# Altium integrated library mod_duo_dwarf.IntLib: 29 symbols
Pins are listed as number, name and electrical type; pins without a type are passive.

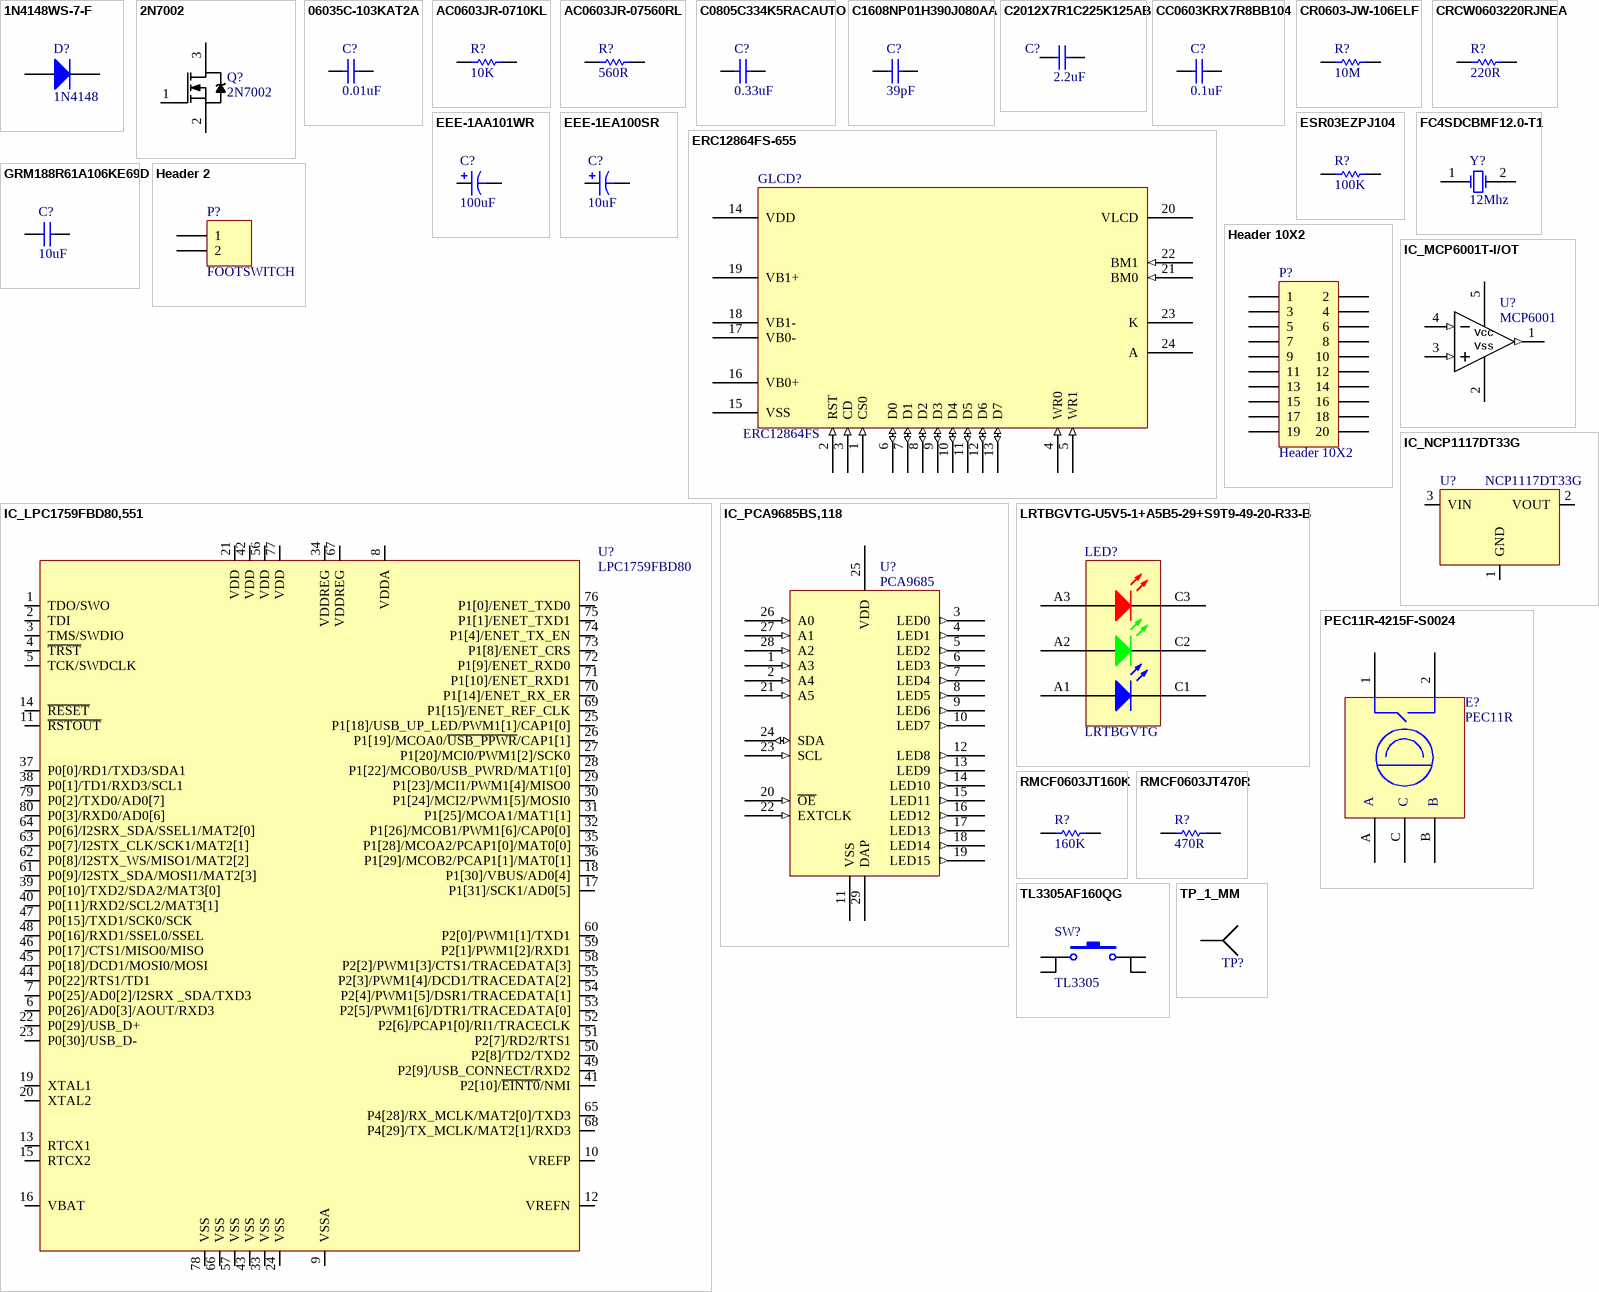
[diagram p0: symbols 1N4148WS-7-F to TP_1_MM]

## 1N4148WS-7-F
designator D?, comment 1N4148
DIODE SWITCHING 75V 0.15A SOD323; Manufacturer 1: Diodes; Manufacturer Part Number 1: 1N4148WS-7-F; Forward Current: 300mA; Reverse Recovery Time: 4ns; Element Configuration: Single; Forward Voltage: 1.25V; Peak Reverse Current: 1uA; Peak Non-Repetitive Surge Current: 2A; Average Rectified Current: 150mA; Power Dissipation: 200mW; Polarity: Standard; Capacitance: 2pF; Supplier 1: Digi-Key; Stock 1: 557451; Pricing 1: 1=0.19, 10=0.171, 100=0.0932, 500=0.05736, 1000=0.03911 (USD); Mount: Surface Mount; Number of Pins: 2; Weight: 0.000173oz; Contact Plating: Tin,Matte; Min Operating Temperature: -65°C; Max Operating Temperature: 150°C; Max Repetitive Reverse Voltage (Vrrm): 75V; Max Forward Surge Current (Ifsm): 2A; Max Surge Current: 2A; Packaging: Tape and Reel; Recovery Time: 4ns; Package Quantity: 3000; Voltage Rating (DC): 75V; Power Rating: 200mW; Current Rating: 150mA; Output Current: 150mA; Voltage: 75V; Max Reverse Voltage (DC): 75V; Current: 2A; Length: 1.8mm; Height: 1mm; Width: 1.4mm; Radiation Hardening: No; REACH SVHC: No SVHC; Lead Free: Lead Free; ComponentLink1URL: https://datasheet.ciiva.com/16199/ds30097-16199061.pdf; ComponentLink1Description: https://datasheet.ciiva.com/16199/ds30097-16199061.pdf; ComponentLink2URL: https://datasheet.ciiva.com/16472/ds30097-16472599.pdf; ComponentLink2Description: https://datasheet.ciiva.com/16472/ds30097-16472599.pdf; ComponentLink3URL: https://datasheet.ciiva.com/1179/ds30097-1179355.pdf; ComponentLink3Description: https://datasheet.ciiva.com/1179/ds30097-1179355.pdf; ComponentLink4URL: https://datasheet.ciiva.com/8300/ds30097-8300396.pdf; ComponentLink4Description: https://datasheet.ciiva.com/8300/ds30097-8300396.pdf; ComponentLink5URL: https://datasheet.ciiva.com/911/ds30097-911741.pdf; ComponentLink5Description: https://datasheet.ciiva.com/911/ds30097-911741.pdf; ComponentLink6URL: https://datasheet.ciiva.com/911/ds30097-911742.pdf; ComponentLink6Description: https://datasheet.ciiva.com/911/ds30097-911742.pdf; ComponentLink7URL: https://datasheet.ciiva.com/25946/ds30097-25946926.pdf; ComponentLink7Description: https://datasheet.ciiva.com/25946/ds30097-25946926.pdf; ComponentLink8URL: https://datasheet.ciiva.com/911/ds30097-911743.pdf; ComponentLink8Description: https://datasheet.ciiva.com/911/ds30097-911743.pdf; Supplier Part Number 1: 1N4148WS-FDICT-ND
footprint SOD-323
pins: 1 K, 2 A

## 2N7002
designator Q?
MOSFET N-CH 60V 115MA SOT-23; Manufacturer 1: ON Semiconductor / Fairchild; Max Power Dissipation: 200mW; Drain to Source Resistance: 1.2R; Gate to Source Voltage (Vgs): 20V; Nominal Vgs: 2.1V; Number of Elements: 1; Element Configuration: Single; Input Capacitance: 50pF; Rds On Max: 7.5R; On-State Resistance: 5.3R; Supplier 1: Digi-Key; Manufacturer Part Number 1: 2N7002; Stock 1: 111118; Pricing 1: 1=0.33, 10=0.304, 100=0.17, 500=0.09108, 1000=0.06193 (USD); Mount: Surface Mount; Case/Package: SOT-23; Number of Pins: 3; Contact Plating: Tin,Matte; Min Operating Temperature: -55°C; Max Operating Temperature: 150°C; Continuous Drain Current (ID): 115mA; Packaging: Tape and Reel; Package Quantity: 1; Drain to Source Voltage (Vdss): 60V; Drain to Source Breakdown Voltage: 60V; Power Dissipation: 200mW; Threshold Voltage: 2.1V; Voltage Rating (DC): 60V; Current Rating: 115mA; Dual Supply Voltage: 60V; Current: 115mA; Voltage: 60V; Length: 2.92mm; Height: 0.93mm; Width: 3.05mm; Radiation Hardening: No; REACH SVHC: No SVHC; Lead Free: Lead Free; ComponentLink1URL: https://datasheet.ciiva.com/931/2n7000-931777.pdf; ComponentLink1Description: https://datasheet.ciiva.com/931/2n7000-931777.pdf; ComponentLink2URL: https://datasheet.ciiva.com/27746/47-0120-27746881.pdf; ComponentLink2Description: https://datasheet.ciiva.com/27746/47-0120-27746881.pdf; ComponentLink3URL: https://datasheet.ciiva.com/1254/2n7002-1254451.pdf; ComponentLink3Description: https://datasheet.ciiva.com/1254/2n7002-1254451.pdf; ComponentLink4URL: https://datasheet.ciiva.com/15137/getdatasheetpartid-93547-15137771.pdf; ComponentLink4Description: https://datasheet.ciiva.com/15137/getdatasheetpartid-93547-15137771.pdf; ComponentLink5URL: https://datasheet.ciiva.com/931/2n7000-931762.pdf; ComponentLink5Description: https://datasheet.ciiva.com/931/2n7000-931762.pdf; ComponentLink6URL: https://datasheet.ciiva.com/931/2n7000-931763.pdf; ComponentLink6Description: https://datasheet.ciiva.com/931/2n7000-931763.pdf; ComponentLink7URL: https://datasheet.ciiva.com/931/2n7000-931764.pdf; ComponentLink7Description: https://datasheet.ciiva.com/931/2n7000-931764.pdf; ComponentLink8URL: https://datasheet.ciiva.com/1254/660093-1254452.pdf; ComponentLink8Description: https://datasheet.ciiva.com/1254/660093-1254452.pdf; ComponentLink9URL: https://datasheet.ciiva.com/1188/660093-1188359.pdf; ComponentLink9Description: https://datasheet.ciiva.com/1188/660093-1188359.pdf; ComponentLink10URL: https://datasheet.ciiva.com/1188/660093-1188361.pdf; ComponentLink10Description: https://datasheet.ciiva.com/1188/660093-1188361.pdf; ComponentLink11URL: https://datasheet.ciiva.com/17007/2n7002-17007243.pdf; ComponentLink11Description: https://datasheet.ciiva.com/17007/2n7002-17007243.pdf; ComponentLink12URL: https://datasheet.ciiva.com/3304/nds7002a-3304380.pdf; ComponentLink12Description: https://datasheet.ciiva.com/3304/nds7002a-3304380.pdf; ComponentLink13URL: https://datasheet.ciiva.com/3304/nds7002a-3304381.pdf; ComponentLink13Description: https://datasheet.ciiva.com/3304/nds7002a-3304381.pdf; ComponentLink14URL: https://datasheet.ciiva.com/22655/660093-22655230.pdf; ComponentLink14Description: https://datasheet.ciiva.com/22655/660093-22655230.pdf; Supplier Part Number 1: 2N7002NCT-ND
footprint SOT23-3N (SOT23, 3-Leads, Body 2.9x1.3mm, Pitch 0.95mm, Lead Span 2.5mm, IPC Medium Density)
pins: 1 G, 2 S, 3 D

## 06035C-103KAT2A
designator C?, comment 0.01uF
CAP CER 10000PF 50V X7R 0603; Manufacturer 1: Kyocera AVX; Manufacturer Part Number 1: 06035C-103KAT2A; Dielectric Material: Ceramic; Tolerance: 10%; Capacitance: 10nF; Dissipation Factor: 2.5%; Insulation Resistance: 100GR; Supplier 1: Digi-Key; Stock 1: 40000; Pricing 1: 1=0.1, 10=0.075, 100=0.0334, 500=0.02388, 1000=0.01877 (USD); Mount: Surface Mount,PCB; Case/Package: 0603; Number of Pins: 2; Case Code (Metric): 1608; Case Code (Imperial): 0603; Contact Plating: Tin,Matte; Min Operating Temperature: -55°C; Max Operating Temperature: 125°C; Dielectric: X7R; Voltage Rating (DC): 50V; Packaging: Tape and Reel; Voltage: 50V; Voltage Rating: 50V; Package Quantity: 1; Termination: SMD/SMT; Length: 1.6mm; Height: 0.9mm; Width: 0.032inch; Depth: 0.81mm; Thickness: 0.035inch; Radiation Hardening: No; REACH SVHC: No SVHC; Lead Free: Lead Free; ComponentLink1URL: https://datasheet.ciiva.com/1124/1679506-1124848.pdf; ComponentLink1Description: https://datasheet.ciiva.com/1124/1679506-1124848.pdf; ComponentLink2URL: https://datasheet.ciiva.com/2987/cx7r-2987824.pdf; ComponentLink2Description: https://datasheet.ciiva.com/2987/cx7r-2987824.pdf; ComponentLink3URL: https://datasheet.ciiva.com/150/cx7r-150227.pdf; ComponentLink3Description: https://datasheet.ciiva.com/150/cx7r-150227.pdf; ComponentLink4URL: https://datasheet.ciiva.com/150/cx7r-150228.pdf; ComponentLink4Description: https://datasheet.ciiva.com/150/cx7r-150228.pdf; ComponentLink5URL: https://datasheet.ciiva.com/150/cx7r-150229.pdf; ComponentLink5Description: https://datasheet.ciiva.com/150/cx7r-150229.pdf; ComponentLink6URL: https://datasheet.ciiva.com/16209/cx7r-16209238.pdf; ComponentLink6Description: https://datasheet.ciiva.com/16209/cx7r-16209238.pdf; ComponentLink7URL: https://datasheet.ciiva.com/15212/getdatasheetpartid-87506-15212295.pdf; ComponentLink7Description: https://datasheet.ciiva.com/15212/getdatasheetpartid-87506-15212295.pdf; ComponentLink8URL: https://datasheet.ciiva.com/5423/cx7r-218113-5423178.pdf; ComponentLink8Description: https://datasheet.ciiva.com/5423/cx7r-218113-5423178.pdf; ComponentLink9URL: https://datasheet.ciiva.com/7855/1679506-7855082.pdf; ComponentLink9Description: https://datasheet.ciiva.com/7855/1679506-7855082.pdf; ComponentLink10URL: https://datasheet.ciiva.com/14585/70001075-14585146.pdf; ComponentLink10Description: https://datasheet.ciiva.com/14585/70001075-14585146.pdf; ComponentLink11URL: https://datasheet.ciiva.com/25901/cx7r-25901100.pdf; ComponentLink11Description: https://datasheet.ciiva.com/25901/cx7r-25901100.pdf; ComponentLink12URL: https://datasheet.ciiva.com/1124/1679506-1124847.pdf; ComponentLink12Description: https://datasheet.ciiva.com/1124/1679506-1124847.pdf; ComponentLink13URL: https://datasheet.ciiva.com/2987/cx7r-2987823.pdf; ComponentLink13Description: https://datasheet.ciiva.com/2987/cx7r-2987823.pdf; Supplier Part Number 1: 478-1227-1-ND
footprint CAPC1608N (Chip Capacitor, Body 1.6x0.8mm, IPC Medium Density)
pins: 1, 2

## AC0603JR-0710KL
designator R?, comment 10K
RES SMD 10K OHM 5% 1/10W 0603; Manufacturer 1: Yageo; Manufacturer Part Number 1: AC0603JR-0710KL; Voltage Rating: 50V; Resistance: 10kR; Power Rating: 100mW; Temperature Coefficient: 100ppm/°C; Supplier 1: Digi-Key; Stock 1: 60451; Pricing 1: 1=0.1, 10=0.032, 100=0.0131, 1000=0.00588, 2500=0.0051 (USD); Case/Package: 0603; Case Code (Imperial): 0603; Case Code (Metric): 1608; Min Operating Temperature: -55°C; Max Operating Temperature: 155°C; Packaging: Tape and Reel; Tolerance: 5%; Package Quantity: 1; Composition: Thick Film; Termination: SMD/SMT; Number of Terminations: 2; Military Standard: Not; Max Power Dissipation: 100mW; Features: Moisture Resistant,Automotive AEC-Q200,Anti-Sulfur; Length: 0.063inch; Height: 0.022inch; Width: 0.031inch; Depth: 0.8mm; Lead Free: Lead Free; ComponentLink1URL: https://datasheet.ciiva.com/5562/pyu-ac-51-rohs-l-2-5562553.pdf; ComponentLink1Description: https://datasheet.ciiva.com/5562/pyu-ac-51-rohs-l-2-5562553.pdf; Supplier Part Number 1: 311-10KLECT-ND
footprint RESC1608N (Chip Resistor, Body 1.6x0.8mm, IPC Medium Density)
pins: 1, 2

## AC0603JR-07560RL
designator R?, comment 560R
RES SMD 560 OHM 5% 1/10W 0603; Manufacturer 1: Yageo; Manufacturer Part Number 1: AC0603JR-07560RL; Power Rating: 100mW; Voltage Rating: 50V; Temperature Coefficient: 100ppm/°C; Supplier 1: Digi-Key; Stock 1: 24630; Pricing 1: 1=0.1, 10=0.026, 100=0.0107, 1000=0.00478, 2500=0.00415 (USD); Case/Package: 0603; Case Code (Imperial): 0603; Case Code (Metric): 1608; Min Operating Temperature: -55°C; Max Operating Temperature: 155°C; Packaging: Tape and Reel; Resistance: 560R; Tolerance: 5%; Composition: Thick Film; Number of Terminations: 2; Termination: SMD/SMT; Max Power Dissipation: 100mW; Length: 0.063inch; Height: 0.022inch; Width: 0.031inch; ComponentLink1URL: http://www.yageo.com/NewPortal/yageodocoutput?fileName=/pdf/R-Chip/PYu-AC_51_RoHS_L_6.pdf; ComponentLink1Description: http://www.yageo.com/NewPortal/yageodocoutput?fileName=/pdf/R-Chip/PYu-AC_51_RoHS_L_6.pdf; ComponentLink2URL: http://www.mouser.com/ds/2/447/yageodocoutput-1111992.pdf; ComponentLink2Description: http://www.mouser.com/ds/2/447/yageodocoutput-1111992.pdf; Supplier Part Number 1: YAG3681CT-ND
footprint RESC1608N (Chip Resistor, Body 1.6x0.8mm, IPC Medium Density)
pins: 1, 2

## C0805C334K5RACAUTO
designator C?, comment 0.33uF
CAP CER 0.33UF 50V X7R 0805; Manufacturer 1: Kemet; Manufacturer Part Number 1: C0805C334K5RACAUTO; Description 1: Multilayer Ceramic Capacitors MLCC - SMD/SMT 0.33uF 50volts 10% X7R; Capacitance - nF: 330 nF; Capacitance - pF: 330000 pF; Case Height: 0.9 mm; Case Length: 2 mm; Case Width: 1.2 mm; Class: Class 1; Tolerance: 10 %; Temperature Coefficient / Code: +/- 15 %; Type: SMD MLCC X7R 6.3 - 250 VDC Commerical Grade; Supplier 1: Digi-Key; Stock 1: 76; Pricing 1: 1=0.21, 10=0.142, 100=0.0721, 500=0.0493, 1000=0.0436 (USD); Brand: Kemet; Capacitance: 0.33 uF; Case Code - in: 0805; Case Code - mm: 2012; Dimensions: 1.2 mm W x 2 mm L x 0.9 mm H; Dielectric: X7R; Factory Pack Quantity: 4000; Voltage Rating: 50 V; Product Category: Multilayer Ceramic Capacitors MLCC - SMD/SMT; RoHS: Details; Voltage Rating DC: 50 V; Minimum Operating Temperature: - 55 C; Maximum Operating Temperature: + 125 C; Product: Automotive MLCCs; Operating Temperature Range: - 55 C to + 125 C; Package / Case: 0805 (2012 metric); Packaging: Reel; Series: C0805C; Termination Style: SMD/SMT; ComponentLink1URL: https://datasheet.ciiva.com/7842/1776105-7842326.pdf; ComponentLink1Description: https://datasheet.ciiva.com/7842/1776105-7842326.pdf; ComponentLink2URL: https://datasheet.ciiva.com/22705/1776105-22705463.pdf; ComponentLink2Description: https://datasheet.ciiva.com/22705/1776105-22705463.pdf; Supplier Part Number 1: 399-6959-1-ND; Supplier 2: Digi-Key; Supplier Part Number 2: 1276-1808-1-ND; Manufacturer 2: Samsung; Manufacturer Part Number 2: CL21B334KAFNNNE
footprint CAPC2012N (Chip Capacitor, Body 2.0x1.3mm, IPC Medium Density)
pins: 1, 2

## C1608NP01H390J080AA
designator C?, comment 39pF
CAP CER 39PF 50V NP0 0603; Manufacturer 1: TDK; Manufacturer Part Number 1: C1608NP01H390J080AA; Tolerance: 5%; Dielectric: C0G; Supplier 1: Digi-Key; Stock 1: 1503; Pricing 1: 1=0.15, 10=0.106, 100=0.05, 500=0.03508, 1000=0.02904 (USD); Mount: Surface Mount; Case/Package: 0603; Weight: 7.1E-05oz; Case Code (Metric): 1608; Case Code (Imperial): 0603; Min Operating Temperature: -55°C; Max Operating Temperature: 150°C; Package Quantity: 4000; Packaging: Tape and Reel; Capacitance: 39pF; Voltage Rating: 50V; Termination: SMD/SMT; Voltage Rating (DC): 50V; Length: 0.063inch; Height: 0.8mm; Width: 0.031inch; Thickness: 0.035inch; Supplier Part Number 1: 445-14077-1-ND
footprint CAPC1608N (Chip Capacitor, Body 1.6x0.8mm, IPC Medium Density)
pins: 1, 2

## C2012X7R1C225K125AB
designator C?, comment 2.2uF
CAP CER 2.2UF 16V X7R 0805; Manufacturer 1: TDK; Manufacturer Part Number 1: C2012X7R1C225K125AB; Dielectric Material: Ceramic; Tolerance: 10%; Supplier 1: Digi-Key; Stock 1: 20000; Pricing 1: 1=0.28, 10=0.194, 100=0.0983, 500=0.06728, 1000=0.05951 (USD); Mount: Surface Mount; Case/Package: 0805; Number of Pins: 2; Weight: 0.000194oz; Case Code (Imperial): 0805; Case Code (Metric): 2012; Min Operating Temperature: -55°C; Max Operating Temperature: 125°C; Capacitance: 2.2uF; Dielectric: X7R; Packaging: Tape and Reel; Package Quantity: 2000; Voltage Rating: 16V; Voltage Rating (DC): 16V; Termination: SMD/SMT; Voltage: 16V; Composition: Ceramic; Length: 2mm; Height: 1.25mm; Width: 1.25mm; Depth: 1.25mm; Thickness: 0.057inch; Radiation Hardening: No; REACH SVHC: No SVHC; Lead Free: Lead Free; ComponentLink1URL: https://datasheet.ciiva.com/24219/c2012x7r1c225k125ab-265065-24219730.pdf; ComponentLink1Description: https://datasheet.ciiva.com/24219/c2012x7r1c225k125ab-265065-24219730.pdf; ComponentLink2URL: https://datasheet.ciiva.com/11788/0900766b80c1bb00-11788135.pdf; ComponentLink2Description: https://datasheet.ciiva.com/11788/0900766b80c1bb00-11788135.pdf; ComponentLink3URL: https://datasheet.ciiva.com/26834/getdatasheetpartid-736487-26834421.pdf; ComponentLink3Description: https://datasheet.ciiva.com/26834/getdatasheetpartid-736487-26834421.pdf; ComponentLink4URL: https://datasheet.ciiva.com/16482/e412-c-16482422.pdf; ComponentLink4Description: https://datasheet.ciiva.com/16482/e412-c-16482422.pdf; ComponentLink5URL: https://datasheet.ciiva.com/6291/tdkmlcccaprange-6291383.pdf; ComponentLink5Description: https://datasheet.ciiva.com/6291/tdkmlcccaprange-6291383.pdf; ComponentLink6URL: https://datasheet.ciiva.com/6291/tdkmlcccaprange-6291384.pdf; ComponentLink6Description: https://datasheet.ciiva.com/6291/tdkmlcccaprange-6291384.pdf; ComponentLink7URL: https://datasheet.ciiva.com/22648/1796654-22648712.pdf; ComponentLink7Description: https://datasheet.ciiva.com/22648/1796654-22648712.pdf; ComponentLink8URL: https://datasheet.ciiva.com/6291/tdkmlcccaprange-6291450.pdf; ComponentLink8Description: https://datasheet.ciiva.com/6291/tdkmlcccaprange-6291450.pdf; ComponentLink9URL: https://datasheet.ciiva.com/22694/1796654-22694143.pdf; ComponentLink9Description: https://datasheet.ciiva.com/22694/1796654-22694143.pdf; Supplier Part Number 1: 445-1420-1-ND
footprint CAPC2012N (Chip Capacitor, Body 2.0x1.3mm, IPC Medium Density)
pins: 1, 2

## CC0603KRX7R8BB104
designator C?, comment 0.1uF
CAP CER 0.1UF 25V X7R 0603; Manufacturer 1: Yageo; Manufacturer Part Number 1: CC0603KRX7R8BB104; Capacitance: 100nF; Tolerance: 10%; Supplier 1: Digi-Key; Stock 1: 40000; Pricing 1: 1=0.1, 10=0.074, 100=0.0329, 500=0.02352, 1000=0.01848 (USD); Mount: Surface Mount; Case/Package: 0603; Number of Pins: 2; Case Code (Imperial): 0603; Case Code (Metric): 1608; Min Operating Temperature: -55°C; Max Operating Temperature: 125°C; Dielectric: X7R; Voltage Rating: 25V; Packaging: Tape and Reel; Package Quantity: 1; Voltage Rating (DC): 25V; Termination: SMD/SMT; Composition: Ceramic; Voltage: 25V; Length: 1.6mm; Height: 0.8mm; Width: 0.8mm; Thickness: 0.035inch; Depth: 0.8mm; Radiation Hardening: No; REACH SVHC: Unknown; Lead Free: Lead Free; Halogen Free: Halogen Free; ComponentLink1URL: https://datasheet.ciiva.com/11786/0900766b80c10176-11786120.pdf; ComponentLink1Description: https://datasheet.ciiva.com/11786/0900766b80c10176-11786120.pdf; ComponentLink2URL: https://datasheet.ciiva.com/144/mlccorderingcode-144075.pdf; ComponentLink2Description: https://datasheet.ciiva.com/144/mlccorderingcode-144075.pdf; ComponentLink3URL: https://datasheet.ciiva.com/17434/upy-gphc-x7r-6-3v-to-50v-8-17434263.pdf; ComponentLink3Description: https://datasheet.ciiva.com/17434/upy-gphc-x7r-6-3v-to-50v-8-17434263.pdf; ComponentLink4URL: https://datasheet.ciiva.com/26829/getdatasheetpartid-403577-26829431.pdf; ComponentLink4Description: https://datasheet.ciiva.com/26829/getdatasheetpartid-403577-26829431.pdf; ComponentLink5URL: https://datasheet.ciiva.com/11587/upy-gphc-x7r-6-3v-to-50v-8-11587208.pdf; ComponentLink5Description: https://datasheet.ciiva.com/11587/upy-gphc-x7r-6-3v-to-50v-8-11587208.pdf; ComponentLink6URL: https://datasheet.ciiva.com/13389/upy-gphc-x7r-6-3v-to-50v-8-13389352.pdf; ComponentLink6Description: https://datasheet.ciiva.com/13389/upy-gphc-x7r-6-3v-to-50v-8-13389352.pdf; ComponentLink7URL: https://datasheet.ciiva.com/28450/1489800-28450584.pdf; ComponentLink7Description: https://datasheet.ciiva.com/28450/1489800-28450584.pdf; ComponentLink8URL: https://datasheet.ciiva.com/144/mlccorderingcode-144073.pdf; ComponentLink8Description: https://datasheet.ciiva.com/144/mlccorderingcode-144073.pdf; ComponentLink9URL: https://datasheet.ciiva.com/144/mlccorderingcode-144074.pdf; ComponentLink9Description: https://datasheet.ciiva.com/144/mlccorderingcode-144074.pdf; ComponentLink10URL: https://datasheet.ciiva.com/7978/1489800-7978155.pdf; ComponentLink10Description: https://datasheet.ciiva.com/7978/1489800-7978155.pdf; Supplier Part Number 1: 311-1341-1-ND
footprint CAPC1608N (Chip Capacitor, Body 1.6x0.8mm, IPC Medium Density)
pins: 1, 2

## CR0603-JW-106ELF
designator R?, comment 10M
RES SMD 10M OHM 5% 1/10W 0603; Manufacturer 1: Bourns; Resistance: 10MR; Temperature Coefficient: 200ppm/°C; Power Rating: 100mW; Voltage Rating: 50V; Supplier 1: Digi-Key; Manufacturer Part Number 2: CR0603-JW-106ELF; Stock 1: 29967; Pricing 1: 1=0.1, 10=0.016, 100=0.0064, 1000=0.00289, 2500=0.0025 (USD); Mount: Surface Mount; Case/Package: 0603; Contact Plating: Tin; Case Code (Imperial): 0603; Case Code (Metric): 1608; Min Operating Temperature: -55°C; Max Operating Temperature: 155°C; Tolerance: 5%; Composition: Thick Film; Packaging: Tape and Reel; Package Quantity: 5000; Termination: SMD/SMT; Number of Terminations: 2; Max Power Dissipation: 100mW; Military Standard: Not; Length: 1.6mm; Height: 0.022inch; Width: 0.8mm; Thickness: 457um; Depth: 0.8mm; Radiation Hardening: No; ComponentLink1URL: https://datasheet.ciiva.com/9122/chpreztr-9122300.pdf; ComponentLink1Description: https://datasheet.ciiva.com/9122/chpreztr-9122300.pdf; ComponentLink2URL: https://datasheet.ciiva.com/18605/chpreztr-18605117.pdf; ComponentLink2Description: https://datasheet.ciiva.com/18605/chpreztr-18605117.pdf; ComponentLink3URL: https://datasheet.ciiva.com/18605/chpreztr-18605118.pdf; ComponentLink3Description: https://datasheet.ciiva.com/18605/chpreztr-18605118.pdf; ComponentLink4URL: https://datasheet.ciiva.com/18605/chpreztr-18605119.pdf; ComponentLink4Description: https://datasheet.ciiva.com/18605/chpreztr-18605119.pdf; Supplier Part Number 1: CR0603-JW-106ELFCT-ND
footprint RESC1608N (Chip Resistor, Body 1.6x0.8mm, IPC Medium Density)
pins: 1, 2

## CRCW0603220RJNEA
designator R?, comment 220R
RES SMD 220 OHM 5% 1/10W 0603; Manufacturer 1: Vishay; Manufacturer Part Number 1: CRCW0603220RJNEA; Power Rating: 100mW; Temperature Coefficient: 200ppm/°C; Voltage Rating: 75V; Supplier 1: Digi-Key; Stock 1: 284000; Pricing 1: 1=0.1, 10=0.031, 100=0.0125, 1000=0.00563, 2500=0.00488 (USD); Mount: Surface Mount; Case/Package: 0603; Weight: 7.1E-05oz; Case Code (Metric): 1608; Case Code (Imperial): 0603; Contact Plating: Tin; Min Operating Temperature: -55°C; Max Operating Temperature: 155°C; Resistance: 220R; Tolerance: 5%; Packaging: Tape and Reel; Composition: Thick Film; Package Quantity: 1; Number of Terminations: 2; Max Power Dissipation: 100mW; Military Standard: Not; Termination: SMD/SMT; Features: Automotive AEC-Q200; Working Voltage: 75V; Length: 1.55mm; Height: 0.45mm; Width: 0.033inch; Depth: 0.85mm; Radiation Hardening: No; REACH SVHC: Unknown; ComponentLink1URL: https://datasheet.ciiva.com/2524/dcrcwe3-2524384.pdf; ComponentLink1Description: https://datasheet.ciiva.com/2524/dcrcwe3-2524384.pdf; ComponentLink2URL: https://datasheet.ciiva.com/2524/dcrcwe3-2524385.pdf; ComponentLink2Description: https://datasheet.ciiva.com/2524/dcrcwe3-2524385.pdf; ComponentLink3URL: https://datasheet.ciiva.com/2524/dcrcwe3-2524386.pdf; ComponentLink3Description: https://datasheet.ciiva.com/2524/dcrcwe3-2524386.pdf; ComponentLink4URL: https://datasheet.ciiva.com/8339/dcrcwe3-8339958.pdf; ComponentLink4Description: https://datasheet.ciiva.com/8339/dcrcwe3-8339958.pdf; ComponentLink5URL: https://datasheet.ciiva.com/22869/70201119-22869142.pdf; ComponentLink5Description: https://datasheet.ciiva.com/22869/70201119-22869142.pdf; ComponentLink6URL: https://datasheet.ciiva.com/46448/1807946-46448601.pdf; ComponentLink6Description: https://datasheet.ciiva.com/46448/1807946-46448601.pdf; ComponentLink7URL: https://datasheet.ciiva.com/5550/dcrcwe3-109170-5550730.pdf; ComponentLink7Description: https://datasheet.ciiva.com/5550/dcrcwe3-109170-5550730.pdf; Supplier Part Number 1: 541-220GCT-ND
footprint RESC1608N (Chip Resistor, Body 1.6x0.8mm, IPC Medium Density)
pins: 1, 2

## EEE-1AA101WR
designator C?, comment 100uF
CAP ALUM 100UF 20% 10V SMD; Manufacturer 1: Panasonic ECG; Manufacturer Part Number 1: EEE-1AA101WR; Description 1: Cap Aluminum Lytic 100uF 10V 20% (5 X 5.4mm) SMD 50mA 1000h 85C Automotive T/R; Ripple Current: 50mA; Life (Hours): 1000Hour; Supplier 1: Digi-Key; Stock 1: 122621; Pricing 1: 1=0.31, 10=0.212, 100=0.1272, 500=0.0954 (USD); Mount: Surface Mount,PCB; Case/Package: Radial; Contact Plating: Tin; Min Operating Temperature: -40°C; Max Operating Temperature: 85°C; Capacitance: 100uF; Tolerance: 20%; Voltage Rating: 10V; Packaging: Tape and Reel; Package Quantity: 1; Voltage Rating (DC): 10V; Termination: SMD/SMT; Ripple Current (AC): 50mA; Diameter: 5mm; Length: 5.5mm; Height: 5.4mm; Height - Seated (Max): 0.213inch; Radiation Hardening: No; Lead Free: Lead Free; REACH SVHC: Unknown; ComponentLink1URL: https://datasheet.ciiva.com/26945/getdatasheetpartid-169213-26945071.pdf; ComponentLink1Description: https://datasheet.ciiva.com/26945/getdatasheetpartid-169213-26945071.pdf; ComponentLink2URL: https://datasheet.ciiva.com/2983/aba0000ce2-2983906.pdf; ComponentLink2Description: https://datasheet.ciiva.com/2983/aba0000ce2-2983906.pdf; ComponentLink3URL: https://datasheet.ciiva.com/24027/aba0000ce2-40801-24027541.pdf; ComponentLink3Description: https://datasheet.ciiva.com/24027/aba0000ce2-40801-24027541.pdf; ComponentLink4URL: https://datasheet.ciiva.com/30075/11aba0000ce2-30075303.pdf; ComponentLink4Description: https://datasheet.ciiva.com/30075/11aba0000ce2-30075303.pdf; ComponentLink5URL: https://datasheet.ciiva.com/16427/aba0000ce2-16427544.pdf; ComponentLink5Description: https://datasheet.ciiva.com/16427/aba0000ce2-16427544.pdf; ComponentLink6URL: https://datasheet.ciiva.com/14598/70255710-14598233.pdf; ComponentLink6Description: https://datasheet.ciiva.com/14598/70255710-14598233.pdf; ComponentLink7URL: https://datasheet.ciiva.com/14605/70255710-14605689.pdf; ComponentLink7Description: https://datasheet.ciiva.com/14605/70255710-14605689.pdf; ComponentLink8URL: https://datasheet.ciiva.com/11673/aba0000ce2-11673882.pdf; ComponentLink8Description: https://datasheet.ciiva.com/11673/aba0000ce2-11673882.pdf; Supplier Part Number 1: PCE3867CT-ND
footprint CAPAE6553X55M (Aluminum Electrolytic Capacitor, Body 5.30x5.30x5.50mm, IPC Low Density)
pins: 1, 2

## EEE-1EA100SR
designator C?, comment 10uF
CAP ALUM 10UF 20% 25V SMD; Manufacturer 1: Panasonic; Manufacturer Part Number 1: EEE-1EA100SR; Ripple Current: 28mA; Life (Hours): 2000Hour; Leakage Current: 3uA; Lead Length: 2.2mm; Supplier 1: Digi-Key; Stock 1: 6724; Pricing 1: 1=0.31, 10=0.214, 100=0.1286, 500=0.09646 (USD); Mount: PCB,Surface Mount; Case/Package: Radial; Number of Pins: 2; Contact Plating: Tin; Min Operating Temperature: -40°C; Max Operating Temperature: 85°C; Capacitance: 10uF; Tolerance: 20%; Packaging: Tape and Reel; Voltage Rating: 25V; Ripple Current (AC): 28mA; Voltage Rating (DC): 25V; Package Quantity: 1; Termination: SMD/SMT; Voltage: 25V; Diameter: 5mm; Length: 5.5mm; Height: 5.4mm; Height - Seated (Max): 0.213inch; Width: 5.3mm; Lead Pitch: 1.5mm; Radiation Hardening: No; REACH SVHC: No SVHC; Supplier Part Number 1: PCE3894CT-ND
footprint CAP_EEE_C-L
pins: 1, 2

## ERC12864FS-655
designator GLCD?, comment ERC12864FS
SERIAL SPI 2.8"GLCD 128x64 UC1701 CONTROLLER; Manufacturer 1: EastRising; Manufacturer Part Number 1: ERC12864FS-655; Supplier 1: EastRising; Supplier Part Number 1: ERC12864FS-655
footprint ERC12864FS
pins: 1 CS0 (in), 2 RST (in), 3 CD (in), 4 WR0 (in), 5 WR1 (in), 6 D0 (io), 7 D1 (io), 8 D2 (io), 9 D3 (io), 10 D4 (io), 11 D5 (io), 12 D6 (io), 13 D7 (io), 14 VDD (power), 15 VSS (power), 16 VB0+, 17 VB0-, 18 VB1-, 19 VB1+, 20 VLCD (power), 21 BM0 (in), 22 BM1 (in), 23 K, 24 A

## ESR03EZPJ104
designator R?, comment 100K
RES SMD 100K OHM 5% 1/4W 0603; Manufacturer 1: Rohm; Manufacturer Part Number 1: ESR03EZPJ104; Resistance: 100kR; Power Rating: 200mW; Max Power Dissipation: 250mW; Temperature Coefficient: 200ppm/°C; Supplier 1: Digi-Key; Stock 1: 17901; Pricing 1: 1=0.1, 10=0.087, 100=0.0333, 1000=0.01464, 2500=0.01264 (USD); Case/Package: 0603; Case Code (Metric): 1608; Case Code (Imperial): 0603; Min Operating Temperature: -55°C; Max Operating Temperature: 155°C; Tolerance: 5%; Package Quantity: 1; Packaging: Cut Tape; Composition: Thick Film; Number of Terminations: 2; Length: 0.063inch; Height: 0.022inch; Width: 0.031inch; Lead Free: Lead Free; ComponentLink1URL: https://datasheet.ciiva.com/14930/esr-14930633.pdf; ComponentLink1Description: https://datasheet.ciiva.com/14930/esr-14930633.pdf; ComponentLink2URL: https://datasheet.ciiva.com/14924/esr-14924811.pdf; ComponentLink2Description: https://datasheet.ciiva.com/14924/esr-14924811.pdf; ComponentLink3URL: https://datasheet.ciiva.com/14928/esr-14928813.pdf; ComponentLink3Description: https://datasheet.ciiva.com/14928/esr-14928813.pdf; Supplier Part Number 1: RHM100KDCT-ND
footprint RESC1608N (Chip Resistor, Body 1.6x0.8mm, IPC Medium Density)
pins: 1, 2

## FC4SDCBMF12.0-T1
designator Y?, comment 12Mhz
CRYSTAL 12.0000MHZ 20PF SMD; Manufacturer 1: Fox Electronics; Manufacturer Part Number 1: FC4SDCBMF12.0-T1; Supplier 1: Digi-Key; Stock 1: 37233; Pricing 1: 1=0.32, 10=0.263, 50=0.2364, 100=0.2102, 500=0.1997 (USD); Supplier Part Number 1: 631-1013-1-ND
footprint CRYSTAL_HC49SDLF
pins: 1 OSC1, 2 OSC2

## GRM188R61A106KE69D
designator C?, comment 10uF
CAP CER 10UF 10V X5R 0603; Manufacturer 1: Murata; Manufacturer Part Number 1: GRM188R61A106KE69D; Tolerance: 10%; Supplier 1: Digi-Key; Stock 1: 40000; Pricing 1: 1=0.22, 10=0.149, 100=0.0754, 500=0.05158, 1000=0.04563 (USD); Mount: Surface Mount; Case/Package: 0603; Case Code (Metric): 1608; Case Code (Imperial): 0603; Min Operating Temperature: -55°C; Max Operating Temperature: 85°C; Capacitance: 10uF; Packaging: Tape and Reel; Dielectric: X5R; Voltage Rating: 10V; Voltage: 10V; Voltage Rating (DC): 10V; Length: 1.6mm; Height: 0.8mm; Width: 0.031inch; Thickness: 0.037inch; Depth: 0.8mm; REACH SVHC: No SVHC; Lead Free: Lead Free; Supplier Part Number 1: 490-10474-1-ND
footprint CAPC1608N (Chip Capacitor, Body 1.6x0.8mm, IPC Medium Density)
pins: 1, 2

## Header 2
designator P?, comment FOOTSWITCH
Header, 2-Pin; LatestRevisionDate: 17-Jul-2002; LatestRevisionNote: Re-released for DXP Platform.; Publisher: Altium Limited
footprint HDR1X2 (Connector; Header; 2 Position)
signal-integrity model Connector
pins: 1, 2

## Header 10X2
designator P?
Header, 10-Pin, Dual row; LatestRevisionDate: 17-Jul-2002; LatestRevisionNote: Re-released for DXP Platform.; Publisher: Altium Limited
footprint HDR2X10 (Connector; Header; 10x2 Position)
signal-integrity model Connector
pins: 1, 2, 3, 4, 5, 6, 7, 8, 9, 10, 11, 12, 13, 14, 15, 16, 17, 18, 19, 20

## IC_LPC1759FBD80,551
designator U?, comment LPC1759FBD80
IC MCU 32BIT 512KB FLASH 80LQFP; Manufacturer 1: NXP Semiconductors; Manufacturer Part Number 1: LPC1759FBD80,551; Min Supply Voltage: 2.4V; Max Supply Voltage: 3.6V; Number of PWM Channels: 7; RAM Size: 64KB; Operating Supply Voltage: 3.3V; Number of ADC Channels: 6; Number of Timers/Counters: 4; Max Power Dissipation: 1.5W; Interface: I2C,SPI,USB,CAN,IrDA,SSP,UART,USART,Ethernet,I2S; Number of I/Os: 52; Frequency: 120MHz; Oscillator Type: Internal; Data Bus Width: 32b; Number of SPI Channels: 3; Number of I2C Channels: 2; Watchdog Timer: Yes; Peripherals: Brown-out Detect/Reset,POR,PWM,WDT,DMA,I2C; Core Architecture: ARM; Supplier 1: Digi-Key; Stock 1: 820; Pricing 1: 1=10.62000, 10=9.59500, 25=9.14920, 100=7.94410, 250=7.58712, 500=6.91766, 1000=6.02505 (USD); RoHS: Yes; Mount: Surface Mount; Case/Package: LQFP; Number of Pins: 80; Min Operating Temperature: -40°C; Max Operating Temperature: 85°C; Package Quantity: 119; Packaging: Tray; Number of UART Channels: 4; Number of Programmable I/O: 52; Max Frequency: 120MHz; Memory Type: FLASH; Memory Size: 512KB; Length: 12.1mm; Height: 1.5mm; Width: 12.1mm; Radiation Hardening: No; REACH SVHC: No SVHC; Lead Free: Lead Free; ComponentLink1URL: https://datasheet.ciiva.com/8010/1760709-8010161.pdf?src-supplier=Element14; ComponentLink1Description: https://datasheet.ciiva.com/8010/1760709-8010161.pdf?src-supplier=Element14; ComponentLink2URL: https://datasheet.ciiva.com/26818/lpc1759fbd80-551-26818650.pdf?src-supplier=IIIC; ComponentLink2Description: https://datasheet.ciiva.com/26818/lpc1759fbd80-551-26818650.pdf?src-supplier=IIIC; ComponentLink3URL: https://datasheet.ciiva.com/5700/1760709-5700186.pdf?src-supplier=Farnell; ComponentLink3Description: https://datasheet.ciiva.com/5700/1760709-5700186.pdf?src-supplier=Farnell; ComponentLink4URL: https://datasheet.ciiva.com/16378/lpc1759-58-56-54-52-51-16378523.pdf?src-supplier=Future+Electronics; ComponentLink4Description: https://datasheet.ciiva.com/16378/lpc1759-58-56-54-52-51-16378523.pdf?src-supplier=Future+Electronics; Supplier Part Number 1: 568-4968-ND
footprint LQFP80 (TSQFP, 80-Leads, Body 12.00x12.00mm, Pitch 0.50mm, Thermal Pad 0.00x0.00mm, IPC Medium Density)
pins: 1 TDO/SWO, 2 TDI, 3 TMS/SWDIO, 4 ~{TRST}, 5 TCK/SWDCLK, 6 P0[26]/AD0[3]/AOUT/RXD3, 7 P0[25]/AD0[2]/I2SRX _SDA/TXD3, 8 VDDA, 9 VSSA, 10 VREFP, 11 ~{RSTOUT}, 12 VREFN, 13 RTCX1, 14 ~{RESET}, 15 RTCX2, 16 VBAT, 17 P1[31]/SCK1/AD0[5], 18 P1[30]/VBUS/AD0[4], 19 XTAL1, 20 XTAL2, 21 VDD, 22 P0[29]/USB_D+, 23 P0[30]/USB_D-, 24 VSS, 25 P1[18]/USB_UP_LED/PWM1[1]/CAP1[0], 26 P1[19]/MCOA0/~{USB_PPWR}/CAP1[1], 27 P1[20]/MCI0/PWM1[2]/SCK0, 28 P1[22]/MCOB0/USB_PWRD/MAT1[0], 29 P1[23]/MCI1/PWM1[4]/MISO0, 30 P1[24]/MCI2/PWM1[5]/MOSI0, 31 P1[25]/MCOA1/MAT1[1], 32 P1[26]/MCOB1/PWM1[6]/CAP0[0], 33 VSS, 34 VDDREG, 35 P1[28]/MCOA2/PCAP1[0]/MAT0[0], 36 P1[29]/MCOB2/PCAP1[1]/MAT0[1], 37 P0[0]/RD1/TXD3/SDA1, 38 P0[1]/TD1/RXD3/SCL1, 39 P0[10]/TXD2/SDA2/MAT3[0], 40 P0[11]/RXD2/SCL2/MAT3[1], 41 P2[10]/~{EINT0}/NMI, 42 VDD, 43 VSS, 44 P0[22]/RTS1/TD1, 45 P0[18]/DCD1/MOSI0/MOSI, 46 P0[17]/CTS1/MISO0/MISO, 47 P0[15]/TXD1/SCK0/SCK, 48 P0[16]/RXD1/SSEL0/SSEL, 49 P2[9]/USB_CONNECT/RXD2, 50 P2[8]/TD2/TXD2, 51 P2[7]/RD2/RTS1, 52 P2[6]/PCAP1[0]/RI1/TRACECLK, 53 P2[5]/PWM1[6]/DTR1/TRACEDATA[0], 54 P2[4]/PWM1[5]/DSR1/TRACEDATA[1], 55 P2[3]/PWM1[4]/DCD1/TRACEDATA[2], 56 VDD, 57 VSS, 58 P2[2]/PWM1[3]/CTS1/TRACEDATA[3], 59 P2[1]/PWM1[2]/RXD1, 60 P2[0]/PWM1[1]/TXD1, 61 P0[9]/I2STX_SDA/MOSI1/MAT2[3], 62 P0[8]/I2STX_WS/MISO1/MAT2[2], 63 P0[7]/I2STX_CLK/SCK1/MAT2[1], 64 P0[6]/I2SRX_SDA/SSEL1/MAT2[0], 65 P4[28]/RX_MCLK/MAT2[0]/TXD3, 66 VSS, 67 VDDREG, 68 P4[29]/TX_MCLK/MAT2[1]/RXD3, 69 P1[15]/ENET_REF_CLK, 70 P1[14]/ENET_RX_ER, 71 P1[10]/ENET_RXD1, 72 P1[9]/ENET_RXD0, 73 P1[8]/ENET_CRS, 74 P1[4]/ENET_TX_EN, 75 P1[1]/ENET_TXD1, 76 P1[0]/ENET_TXD0, 77 VDD, 78 VSS, 79 P0[2]/TXD0/AD0[7], 80 P0[3]/RXD0/AD0[6]

## IC_MCP6001T-I/OT
designator U?, comment MCP6001
IC OPAMP GP 1MHZ RRO SOT23-5; Manufacturer 1: Microchip; Manufacturer Part Number 1: MCP6001T-I/OT; Voltage Gain: 112dB; Min Supply Voltage: 1.8V; Max Supply Voltage: 6V; Common Mode Rejection Ratio: 60dB; Operating Supply Voltage: 5.5V; Slew Rate: 0.6V/µs; Nominal Supply Current: 100uA; Number of Channels: 1; Output Current: 23mA; Input Bias Current: 1pA; Input Offset Voltage (Vos): 4.5mV; Power Supply Rejection Ratio (PSRR): 86dB; Supplier 1: Digi-Key; Stock 1: 3412; Pricing 1: 1=0.25, 25=0.206 (USD); Mount: Surface Mount; Case/Package: SOT-23; Number of Pins: 5; Contact Plating: Tin,Matte; Min Operating Temperature: -40°C; Max Operating Temperature: 85°C; Gain Bandwidth Product: 1MHz; Packaging: Tape and Reel; Bandwidth: 1MHz; Unity Gain Bandwidth Product: 1MHz; Package Quantity: 1; Number of Circuits: 1; Operating Supply Current: 100uA; Output Current per Channel: 23mA; Number of Elements: 1; Number of Amplifiers: 1; Voltage: 6V; Length: 3.1mm; Height: 1.3mm; Width: 1.8mm; Radiation Hardening: No; REACH SVHC: No SVHC; Lead Free: Lead Free; ComponentLink1URL: https://datasheet.ciiva.com/1793/21733j-1793040.pdf; ComponentLink1Description: https://datasheet.ciiva.com/1793/21733j-1793040.pdf; ComponentLink2URL: https://datasheet.ciiva.com/16199/filehandler-aspxddocname-en011705-16199408.pdf; ComponentLink2Description: https://datasheet.ciiva.com/16199/filehandler-aspxddocname-en011705-16199408.pdf; ComponentLink3URL: https://datasheet.ciiva.com/26344/651487-da-01-en-ic-opamp-mcp6001t-i-ot-sot-23-5-mcp-26344500.pdf; ComponentLink3Description: https://datasheet.ciiva.com/26344/651487-da-01-en-ic-opamp-mcp6001t-i-ot-sot-23-5-mcp-26344500.pdf; ComponentLink4URL: https://datasheet.ciiva.com/1793/21733j-1793041.pdf; ComponentLink4Description: https://datasheet.ciiva.com/1793/21733j-1793041.pdf; ComponentLink5URL: https://datasheet.ciiva.com/1793/21733j-1793042.pdf; ComponentLink5Description: https://datasheet.ciiva.com/1793/21733j-1793042.pdf; ComponentLink6URL: https://datasheet.ciiva.com/16796/jp011705-16796421.pdf; ComponentLink6Description: https://datasheet.ciiva.com/16796/jp011705-16796421.pdf; ComponentLink7URL: https://datasheet.ciiva.com/8078/524878-8078826.pdf; ComponentLink7Description: https://datasheet.ciiva.com/8078/524878-8078826.pdf; ComponentLink8URL: https://datasheet.ciiva.com/14544/70045422-14544795.pdf; ComponentLink8Description: https://datasheet.ciiva.com/14544/70045422-14544795.pdf; ComponentLink9URL: https://datasheet.ciiva.com/8078/524878-8078829.pdf; ComponentLink9Description: https://datasheet.ciiva.com/8078/524878-8078829.pdf; ComponentLink10URL: https://datasheet.ciiva.com/14151/mcp6001-2-4-eng-tds-14151487.pdf; ComponentLink10Description: https://datasheet.ciiva.com/14151/mcp6001-2-4-eng-tds-14151487.pdf; Supplier Part Number 1: MCP6001T-I/OTCT-ND
footprint SOT23-5N
pins: 1 OUT (out), 2 VSS (power), 3 IN+ (in), 4 IN- (in), 5 VCC (power)
text: Vcc; Vss

## IC_NCP1117DT33G
designator U?, comment NCP1117DT33G
IC REG LDO 3.3V 1A DPAK; Manufacturer 1: ON Semiconductor; Dropout Voltage: 1.07V; Max Input Voltage: 20V; Number of Outputs: 1; Input Bias Current: 6mA; Polarity: Positive; Accuracy: 1%; Output Type: Fixed; Supplier 1: Digi-Key; Manufacturer Part Number 1: NCP1117DT33G; Stock 1: 3065; Pricing 1: 1=0.44, 75=0.3504, 150=0.28027, 525=0.22023, 1050=0.17017 (USD); Mount: Surface Mount; Case/Package: DPAK; Number of Pins: 3; Contact Plating: Matte,Tin; Min Operating Temperature: 0°C; Max Operating Temperature: 125°C; Output Current: 1A; Max Output Current: 1A; Output Voltage: 3.3V; Package Quantity: 75; Packaging: Rail/Tube; Nominal Output Voltage: 3.3V; Number of Regulators: 1; Min Current Limit: 1A; Quiescent Current: 6mA; Min Output Voltage: 3.3V; Output Voltage Accuracy: 1%; Length: 6.73mm; Height: 2.38mm; Width: 6.22mm; Radiation Hardening: No; REACH SVHC: No SVHC; Lead Free: Lead Free; Halogen Free: Halogen Free; Supplier Part Number 1: NCP1117DT33GOS-ND
footprint DPAK-L
pins: 1 GND, 2 VOUT, 3 VIN

## IC_PCA9685BS,118
designator U?, comment PCA9685
IC LED DRVR LIN DIM 25MA 28HVQFN; Manufacturer 1: NXP Semiconductors; Manufacturer Part Number 1: PCA9685BS,118; Number of Outputs: 16; Frequency: 50MHz; Output Voltage: 5.5V; Supplier 1: Digi-Key; Stock 1: 4307; Pricing 1: 1=2.46, 10=2.205, 100=1.7727, 500=1.45642, 1000=1.20675 (USD); Mount: Surface Mount; Case/Package: VQFN; Number of Pins: 28; Contact Plating: Gold; Min Operating Temperature: -40°C; Max Operating Temperature: 85°C; Packaging: Tape and Reel; Package Quantity: 1; Radiation Hardening: No; ComponentLink1URL: https://datasheet.ciiva.com/12278/pca9685-62190-12278354.pdf; ComponentLink1Description: https://datasheet.ciiva.com/12278/pca9685-62190-12278354.pdf; ComponentLink2URL: https://datasheet.ciiva.com/8125/pca9685-8125351.pdf; ComponentLink2Description: https://datasheet.ciiva.com/8125/pca9685-8125351.pdf; ComponentLink3URL: https://datasheet.ciiva.com/1945/pca9685-1945099.pdf; ComponentLink3Description: https://datasheet.ciiva.com/1945/pca9685-1945099.pdf; ComponentLink4URL: https://datasheet.ciiva.com/1945/pca9685-1945100.pdf; ComponentLink4Description: https://datasheet.ciiva.com/1945/pca9685-1945100.pdf; ComponentLink5URL: https://datasheet.ciiva.com/1945/pca9685-1945101.pdf; ComponentLink5Description: https://datasheet.ciiva.com/1945/pca9685-1945101.pdf; Supplier Part Number 1: 568-5305-1-ND
footprint SOT788-1
pins: 1 A3 (in), 2 A4 (in), 3 LED0 (out), 4 LED1 (out), 5 LED2 (out), 6 LED3 (out), 7 LED4 (out), 8 LED5 (out), 9 LED6 (out), 10 LED7 (out), 11 VSS, 12 LED8 (out), 13 LED9 (out), 14 LED10 (out), 15 LED11 (out), 16 LED12 (out), 17 LED13 (out), 18 LED14 (out), 19 LED15 (out), 20 ~{OE} (in), 21 A5 (in), 22 EXTCLK (in), 23 SCL (in), 24 SDA (io), 25 VDD, 26 A0 (in), 27 A1 (in), 28 A2 (in), 29 DAP

## LRTBGVTG-U5V5-1+A5B5-29+S9T9-49-20-R33-B
designator LED?, comment LRTBGVTG
LED RGB DIFFUSED 6PLCC SMD; Manufacturer 1: Osram Opto; Manufacturer Part Number 1: LRTBGVTG-U5V5-1+A5B5-29+S9T9-49-20-R33-B; Supplier 1: Digi-Key; Stock 1: 16782; Pricing 1: 1=0.91, 10=0.707, 25=0.586, 100=0.5053, 250=0.44468, 500=0.38404, 1000=0.3032 (USD); Supplier Part Number 1: 475-3547-1-ND
footprint LRTB GVTG
pins: A1, A2, A3, C1, C2, C3

## PEC11R-4215F-S0024
designator E?, comment PEC11R
ENCODER ROTARY 15MM SHAFT; Manufacturer 1: Bourns; Manufacturer Part Number 1: PEC11R-4215F-S0024; Number of Channels: 2; Encoder Type: Mechanical; Pulses per Revolution: 24; Detent: Yes; Output Type: Quadrature,Incremental; Hole Diameter: 1.8mm; Supplier 1: Digi-Key; Stock 1: 2746; Pricing 1: 1=1.68, 10=1.566, 25=1.4792, 50=1.305, 150=1.073, 300=1.044, 600=0.986, 1050=0.928, 5100=0.812 (USD); Mount: Through Hole,Panel,PCB; Min Operating Temperature: -30°C; Max Operating Temperature: 70°C; Package Quantity: 150; Packaging: Bulk; Termination: PC Pins; Orientation: Vertical; Built in Switch: Yes; Type: Mechanical; Length: 21.5mm; Height: 13.4mm; Width: 12.5mm; Radiation Hardening: No; REACH SVHC: No SVHC; ComponentLink1URL: https://datasheet.ciiva.com/26917/getdatasheetpartid-730131-26917851.pdf; ComponentLink1Description: https://datasheet.ciiva.com/26917/getdatasheetpartid-730131-26917851.pdf; ComponentLink2URL: https://datasheet.ciiva.com/12175/pec11r-221203-12175422.pdf; ComponentLink2Description: https://datasheet.ciiva.com/12175/pec11r-221203-12175422.pdf; Supplier Part Number 1: PEC11R-4215F-S0024-ND
footprint PEC11R
pins: 1, 2, A, B, C

## RMCF0603JT160K
designator R?, comment 160K
RES SMD 160K OHM 5% 1/10W 0603; Manufacturer 1: Stackpole Electronics; Manufacturer Part Number 1: RMCF0603JT160K; Resistance: 160kR; Power Rating: 100mW; Temperature Coefficient: 100ppm/°C; Supplier 1: Digi-Key; Stock 1: 10640; Pricing 1: 1=0.1, 10=0.016, 100=0.0064, 1000=0.00289, 2500=0.0025 (USD); Mount: Surface Mount; Case/Package: 0603; Case Code (Metric): 1608; Case Code (Imperial): 0603; Contact Plating: Tin,Matte; Min Operating Temperature: -55°C; Max Operating Temperature: 155°C; Tolerance: 5%; Packaging: Tape and Reel; Composition: Thick Film; Number of Terminations: 2; Max Power Dissipation: 100mW; Features: Automotive AEC-Q200; Length: 0.061inch; Height: 0.022inch; Width: 0.031inch; Radiation Hardening: No; Lead Free: Lead Free; Supplier Part Number 1: RMCF0603JT160KCT-ND
footprint RESC1608N (Chip Resistor, Body 1.6x0.8mm, IPC Medium Density)
pins: 1, 2

## RMCF0603JT470R
designator R?, comment 470R
RES SMD 470 OHM 5% 1/10W 0603; Manufacturer 1: Stackpole Electronics; Manufacturer Part Number 1: RMCF0603JT470R; Power Rating: 100mW; Temperature Coefficient: 100ppm/°C; Working Voltage: 75V; Supplier 1: Digi-Key; Stock 1: 1799; Pricing 1: 1=0.1, 10=0.013, 100=0.0051, 1000=0.0023, 2500=0.002 (USD); Mount: Surface Mount; Case/Package: 0603; Case Code (Metric): 1608; Case Code (Imperial): 0603; Contact Plating: Tin,Matte; Min Operating Temperature: -55°C; Max Operating Temperature: 155°C; Packaging: Tape and Reel; Resistance: 470R; Tolerance: 5%; Package Quantity: 1; Composition: Thick Film; Number of Terminations: 2; Military Standard: Not; Max Power Dissipation: 100mW; Features: Automotive AEC-Q200; Length: 1.55mm; Height: 0.022inch; Width: 0.031inch; Depth: 0.8mm; Radiation Hardening: No; Lead Free: Lead Free; ComponentLink1URL: https://datasheet.ciiva.com/15193/getdatasheetpartid-360691-15193516.pdf; ComponentLink1Description: https://datasheet.ciiva.com/15193/getdatasheetpartid-360691-15193516.pdf; Supplier Part Number 1: RMCF0603JT470RCT-ND
footprint RESC1608N (Chip Resistor, Body 1.6x0.8mm, IPC Medium Density)
pins: 1, 2

## TL3305AF160QG
designator SW?, comment TL3305
SWITCH TACTILE SPST-NO 50MA 12V; Manufacturer 1: E-Switch; Manufacturer Part Number 1: TL3305AF160QG; Mechanical Life: 500000Cycles; Illumination Type: Non-Illuminated; Operating Force: 160gf; Throw Configuration: SPST; Switch Travel: 0.2mm; Switch Function: Off-Mom; Supplier 1: Digi-Key; Stock 1: 67156; Pricing 1: 1=0.22, 10=0.217, 25=0.2096, 50=0.202, 100=0.1907, 250=0.17952, 500=0.17204, 1000=0.1309 (USD); Mount: Surface Mount; Min Operating Temperature: -20°C; Max Operating Temperature: 70°C; Packaging: Tape and Reel; Termination: Gull Wing; Lead Free: Lead Free; Supplier Part Number 1: EG5350CT-ND
footprint TL3305
pins: 1, 2, 3, 4

## TP_1_MM
designator TP?  (value not drawn)  (no BOM)
footprint TP_1_MM
pins: 1